# EAGLE library part POGOPIN-CONN (library Protofusion)
Protofusion custom pogo pin programming header
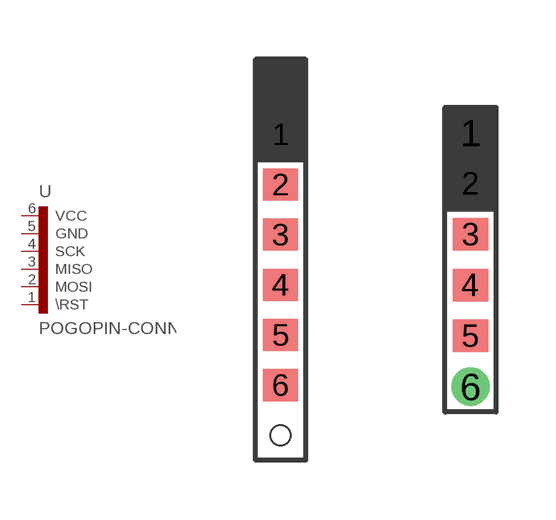
[diagram p7: symbol with the pads of POGOPROG-CONN; footprints POGOPROG-CONN, POGOPROG-CONN-0H]

Designator prefix -

## POGOPIN-CONNSTANDARD  [POGOPROG-CONN]
1  \RST
2  MOSI
3  MISO
4  SCK
5  GND
6  VCC

## POGOPIN-CONNWITHVIAS  [POGOPROG-CONN-0H]
Pads as for POGOPROG-CONN

## POGOPIN-CONNONEHOLE  [POGOPROG-CONN-1H]
Pads as for POGOPROG-CONN

## POGOPIN-CONNWITHVIAS-SMV  [POGOPROG-CONN-OH-SMALLERVIAS]
Pads as for POGOPROG-CONN

## POGOPIN-CONNWIDE  [POGOPROG-CONN-W]
Pads as for POGOPROG-CONN

## POGOPIN-CONNWITHVIAS-1V  [POGOPROG-CONN-OH-1V]
Pads as for POGOPROG-CONN

## Footprint POGOPROG-CONN (pad centres in mm)
Standard pogo pin programming header with two alignment holes. Small SMD pads.
smd 0.889 x 0.813: 1 0,3.81; 2 0,2.54; 3 0,1.27; 4 0,0; 5 0,-1.27; 6 0,-2.54
hole 0.508 at 0,5.08
hole 0.508 at 0,-3.81

## Footprint POGOPROG-CONN-0H (pad centres in mm)
No holes, 2 vias, pogo pin programming header.
drill 0.457: 1 0,3.81; 6 0,-2.54
smd 0.889 x 0.813: 2 0,2.54; 3 0,1.27; 4 0,0; 5 0,-1.27

## Footprint POGOPROG-CONN-1H (pad centres in mm)
Standard pogo pin programming header with ONE alignment hole. Small SMD pads.
smd 0.889 x 0.813: 1 0,2.54; 2 0,1.27; 3 0,0; 4 0,-1.27; 5 0,-2.54; 6 0,-3.81
hole 0.5 at 0,3.81

## Footprint POGOPROG-CONN-OH-SMALLERVIAS (pad centres in mm)
No holes, 2 vias, pogo pin programming header. With smaller vias.
drill 0.381: 1 0,2.54; 6 0,-3.81
smd 0.889 x 0.813: 2 0,1.27; 3 0,0; 4 0,-1.27; 5 0,-2.54

## Footprint POGOPROG-CONN-W (pad centres in mm)
Standard pogo pin programming header with two alignment holes. WIDE smd pads.
smd 1.143 x 0.813: 1 0,2.54; 2 0,1.27; 3 0,0; 4 0,-1.27; 5 0,-2.54; 6 0,-3.81
hole 0.5 at 0,3.81
hole 0.5 at 0,-5.08

## Footprint POGOPROG-CONN-OH-1V (pad centres in mm)
No holes, 1 via, pogo pin programming header.
drill 0.457: 1 0,2.54
smd 0.889 x 0.813: 2 0,1.27; 3 0,0; 4 0,-1.27; 5 0,-2.54; 6 0,-3.81